# Altium schematic symbol library STMicroelectronics Memory Standard SPI EEPROM.SchLib: 1 symbol
Pins are listed as number, name and electrical type; pins without a type are passive.

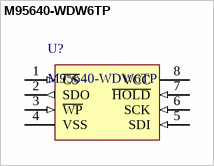
[diagram p0: symbol M95640-WDW6TP]

## M95640-WDW6TP
designator U?
EEPROM Memory IC 64Kb (8K x 8) SPI 20MHz 8-TSSOP; Manufacturer: STMicroelectronics; Package: 8-TSSOP; PackageDescription: *; PartNumber: M95640-WDW6TP; Supplier 1: Digi-Key; Supplier Part Number 1: 497-8699-2-ND
footprint TSOP65P640X120-8L (TSOP, 8-Leads, Body 3.00x4.40mm, Pitch 0.65mm, IPC High Density)
footprint TSOP65P640X120-8M (TSOP, 8-Leads, Body 3.00x4.40mm, Pitch 0.65mm, IPC Low Density)
footprint TSOP65P640X120-8N (TSOP, 8-Leads, Body 3.00x4.40mm, Pitch 0.65mm, IPC Medium Density)
pins: 1 ~{CS} (in), 2 SDO (out), 3 ~{WP} (in), 4 VSS, 5 SDI (in), 6 SCK (in), 7 ~{HOLD} (in), 8 VCC